# Altium integrated library National Semiconductor MiscPower.IntLib: 1552 symbols (part 17 of 43)
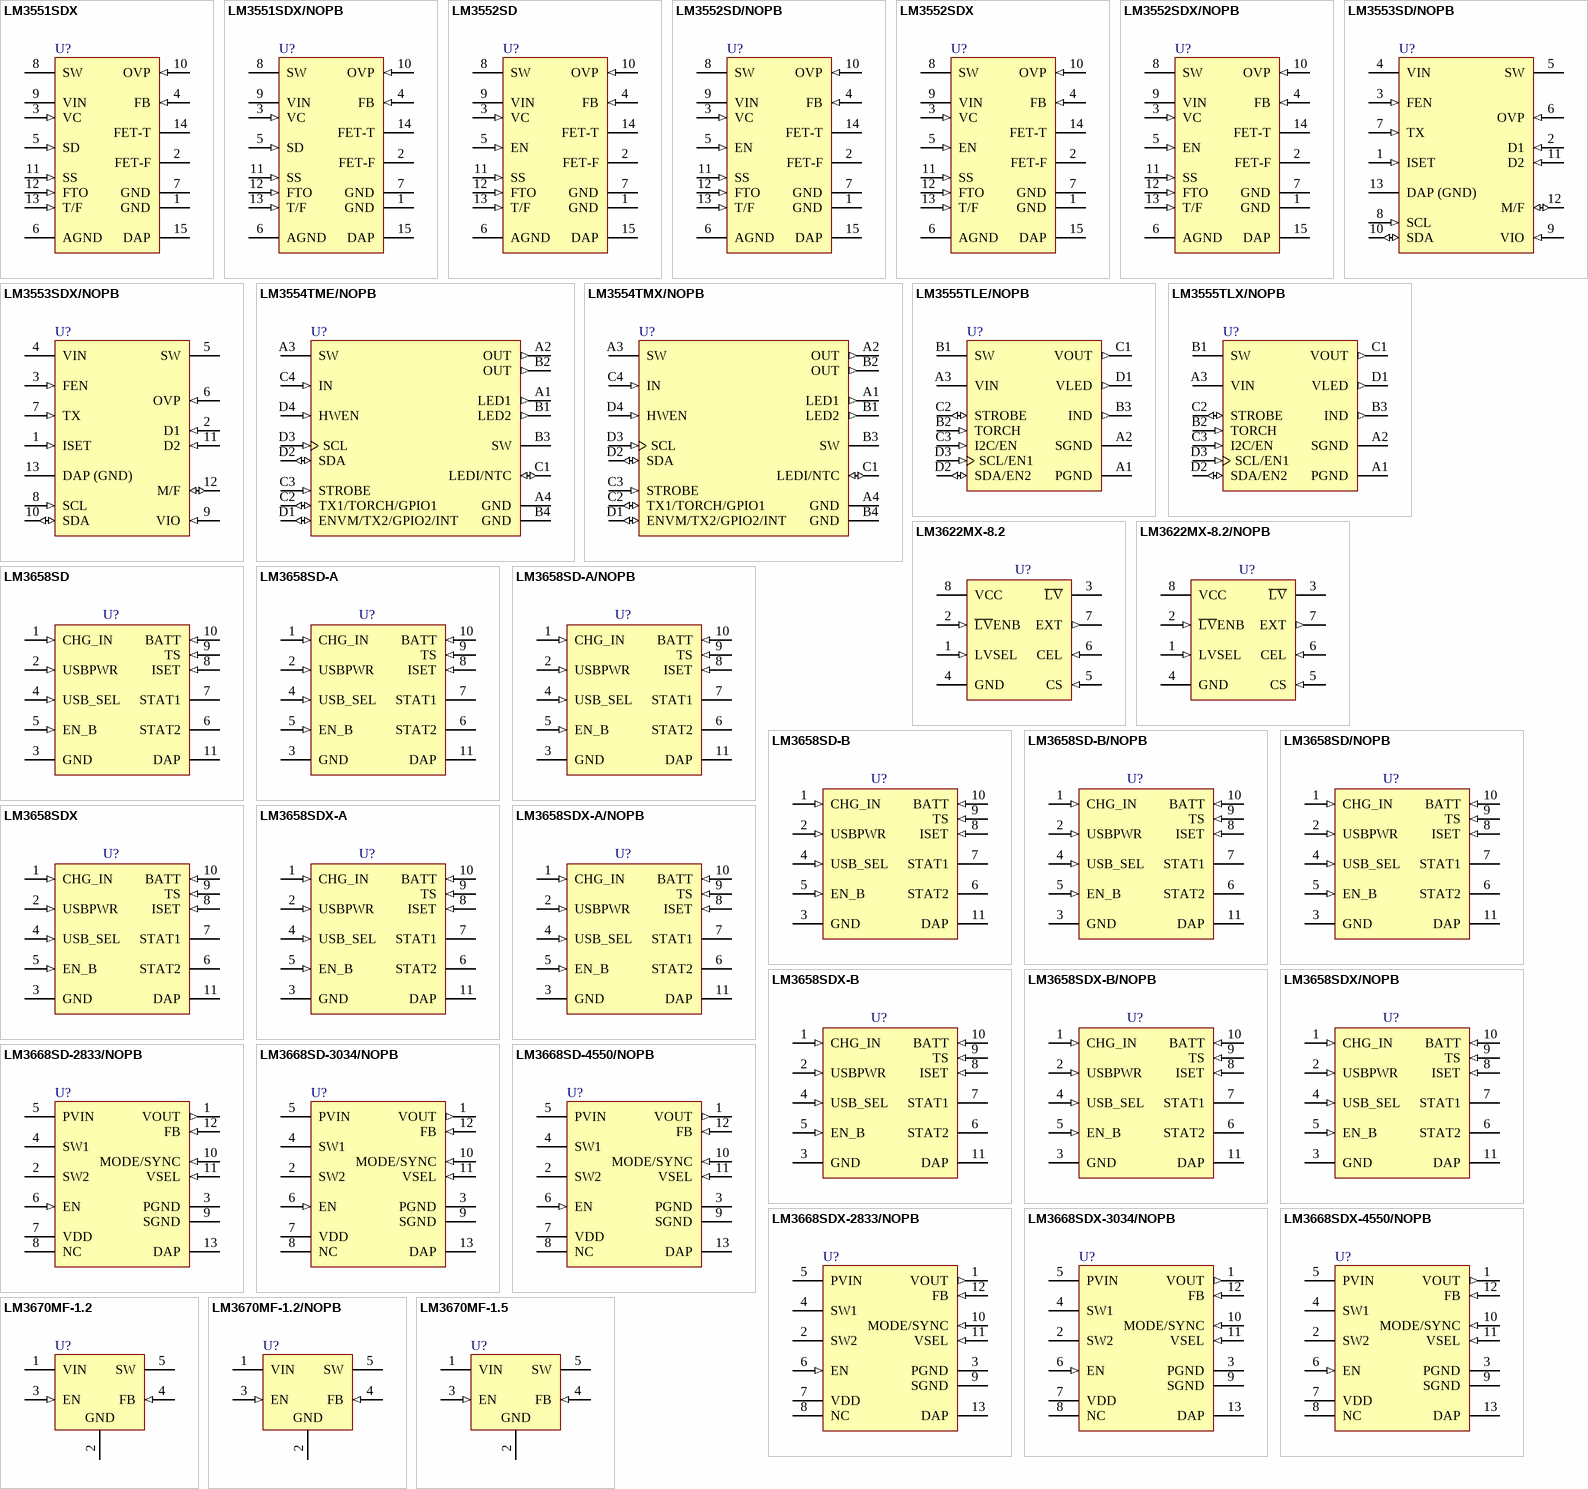
[diagram p73: symbols LM3551SDX to LM3670MF-1.5]

## LM3668SD-2833/NOPB
designator U?
1A, High Efficiency Dual Mode Single Inductor Buck-Boost DC/DC Converter, 12-pin LLP, Pb-Free; PartNumber: LM3668SD-2833/NOPB; Manufacturer: National Semiconductor; PackageTopMarking: ZXYTT*S017B; PowerWise: Y; CompType: MiscPower; DatasheetVersion: Sep-2008; PackageVersion: revB, Jul-2008; PackageReference: SDF12A; PackageDescription: LLP, Plastic, Dual, 3 x 3 x 0.8mm Body, 12 Lead, 0.4mm Pitch, No Pullback; RoHS: Y; PinCount: 12; High-Reliability: Y; ComponentLink1Description: Manufacturer URL; ComponentLink1URL: http://www.national.com/; ComponentLink2Description: LM3668 Datasheet; ComponentLink2URL: http://www.national.com/ds/LM/LM3668.pdf; ComponentLink3Description: LM3668 Web Page; ComponentLink3URL: http://www.national.com/pf/LM/LM3668.html; ComponentLink4Description: SDF12A Package Page; ComponentLink4URL: http://www.national.com/packaging/folders/sdf12a.html
footprint SDF12A (SON, 12-Leads, Body 3x3mm, Pitch 0.4mm, NSC Recommended)
pins: 1 VOUT (out), 2 SW2 (power), 3 PGND (power), 4 SW1 (power), 5 PVIN (power), 6 EN (in), 7 VDD (power), 8 NC, 9 SGND (power), 10 MODE/SYNC (in), 11 VSEL (in), 12 FB (in), 13 DAP (power)

## LM3668SD-3034/NOPB
designator U?
1A, High Efficiency Dual Mode Single Inductor Buck-Boost DC/DC Converter, 12-pin LLP, Pb-Free; PartNumber: LM3668SD-3034/NOPB; Manufacturer: National Semiconductor; PackageTopMarking: ZXYTT*S018B; PowerWise: Y; CompType: MiscPower; DatasheetVersion: Mar-2009; PackageVersion: revB, Jul-2008; PackageReference: SDF12A; PackageDescription: LLP, Plastic, Dual, 3 x 3 x 0.8mm Body, 12 Lead, 0.4mm Pitch, No Pullback; RoHS: Y; PinCount: 12; High-Reliability: Y; ComponentLink1Description: Manufacturer URL; ComponentLink1URL: http://www.national.com/; ComponentLink2Description: LM3668 Datasheet; ComponentLink2URL: http://www.national.com/ds/LM/LM3668.pdf; ComponentLink3Description: LM3668 Web Page; ComponentLink3URL: http://www.national.com/pf/LM/LM3668.html; ComponentLink4Description: SDF12A Package Page; ComponentLink4URL: http://www.national.com/packaging/folders/sdf12a.html
footprint SDF12A (SON, 12-Leads, Body 3x3mm, Pitch 0.4mm, NSC Recommended)
pins: 1 VOUT (out), 2 SW2 (power), 3 PGND (power), 4 SW1 (power), 5 PVIN (power), 6 EN (in), 7 VDD (power), 8 NC, 9 SGND (power), 10 MODE/SYNC (in), 11 VSEL (in), 12 FB (in), 13 DAP (power)

## LM3668SD-4550/NOPB
designator U?
1A, High Efficiency Dual Mode Single Inductor Buck-Boost DC/DC Converter, 12-pin LLP, Pb-Free; PartNumber: LM3668SD-4550/NOPB; Manufacturer: National Semiconductor; PackageTopMarking: ZXYTT*S019B; PowerWise: Y; CompType: MiscPower; DatasheetVersion: Mar-2009; PackageVersion: revB, Jul-2008; PackageReference: SDF12A; PackageDescription: LLP, Plastic, Dual, 3 x 3 x 0.8mm Body, 12 Lead, 0.4mm Pitch, No Pullback; RoHS: Y; PinCount: 12; High-Reliability: Y; ComponentLink1Description: Manufacturer URL; ComponentLink1URL: http://www.national.com/; ComponentLink2Description: LM3668 Datasheet; ComponentLink2URL: http://www.national.com/ds/LM/LM3668.pdf; ComponentLink3Description: LM3668 Web Page; ComponentLink3URL: http://www.national.com/pf/LM/LM3668.html; ComponentLink4Description: SDF12A Package Page; ComponentLink4URL: http://www.national.com/packaging/folders/sdf12a.html
footprint SDF12A (SON, 12-Leads, Body 3x3mm, Pitch 0.4mm, NSC Recommended)
pins: 1 VOUT (out), 2 SW2 (power), 3 PGND (power), 4 SW1 (power), 5 PVIN (power), 6 EN (in), 7 VDD (power), 8 NC, 9 SGND (power), 10 MODE/SYNC (in), 11 VSEL (in), 12 FB (in), 13 DAP (power)

## LM3668SDX-2833/NOPB
designator U?
1A, High Efficiency Dual Mode Single Inductor Buck-Boost DC/DC Converter, 12-pin LLP, Pb-Free; PartNumber: LM3668SDX-2833/NOPB; Manufacturer: National Semiconductor; PackageTopMarking: ZXYTT*S017B; PowerWise: Y; CompType: MiscPower; DatasheetVersion: Sep-2008; PackageVersion: revB, Jul-2008; PackageReference: SDF12A; PackageDescription: LLP, Plastic, Dual, 3 x 3 x 0.8mm Body, 12 Lead, 0.4mm Pitch, No Pullback; RoHS: Y; PinCount: 12; High-Reliability: Y; ComponentLink1Description: Manufacturer URL; ComponentLink1URL: http://www.national.com/; ComponentLink2Description: LM3668 Datasheet; ComponentLink2URL: http://www.national.com/ds/LM/LM3668.pdf; ComponentLink3Description: LM3668 Web Page; ComponentLink3URL: http://www.national.com/pf/LM/LM3668.html; ComponentLink4Description: SDF12A Package Page; ComponentLink4URL: http://www.national.com/packaging/folders/sdf12a.html
footprint SDF12A (SON, 12-Leads, Body 3x3mm, Pitch 0.4mm, NSC Recommended)
pins: 1 VOUT (out), 2 SW2 (power), 3 PGND (power), 4 SW1 (power), 5 PVIN (power), 6 EN (in), 7 VDD (power), 8 NC, 9 SGND (power), 10 MODE/SYNC (in), 11 VSEL (in), 12 FB (in), 13 DAP (power)

## LM3668SDX-3034/NOPB
designator U?
1A, High Efficiency Dual Mode Single Inductor Buck-Boost DC/DC Converter, 12-pin LLP, Pb-Free; PartNumber: LM3668SDX-3034/NOPB; Manufacturer: National Semiconductor; PackageTopMarking: ZXYTT*S018B; PowerWise: Y; CompType: MiscPower; DatasheetVersion: Sep-2008; PackageVersion: revB, Jul-2008; PackageReference: SDF12A; PackageDescription: LLP, Plastic, Dual, 3 x 3 x 0.8mm Body, 12 Lead, 0.4mm Pitch, No Pullback; RoHS: Y; PinCount: 12; High-Reliability: Y; ComponentLink1Description: Manufacturer URL; ComponentLink1URL: http://www.national.com/; ComponentLink2Description: LM3668 Datasheet; ComponentLink2URL: http://www.national.com/ds/LM/LM3668.pdf; ComponentLink3Description: LM3668 Web Page; ComponentLink3URL: http://www.national.com/pf/LM/LM3668.html; ComponentLink4Description: SDF12A Package Page; ComponentLink4URL: http://www.national.com/packaging/folders/sdf12a.html
footprint SDF12A (SON, 12-Leads, Body 3x3mm, Pitch 0.4mm, NSC Recommended)
pins: 1 VOUT (out), 2 SW2 (power), 3 PGND (power), 4 SW1 (power), 5 PVIN (power), 6 EN (in), 7 VDD (power), 8 NC, 9 SGND (power), 10 MODE/SYNC (in), 11 VSEL (in), 12 FB (in), 13 DAP (power)

## LM3668SDX-4550/NOPB
designator U?
1A, High Efficiency Dual Mode Single Inductor Buck-Boost DC/DC Converter, 12-pin LLP, Pb-Free; PartNumber: LM3668SDX-4550/NOPB; Manufacturer: National Semiconductor; PackageTopMarking: ZXYTT*S019B; PowerWise: Y; CompType: MiscPower; DatasheetVersion: Sep-2008; PackageVersion: revB, Jul-2008; PackageReference: SDF12A; PackageDescription: LLP, Plastic, Dual, 3 x 3 x 0.8mm Body, 12 Lead, 0.4mm Pitch, No Pullback; RoHS: Y; PinCount: 12; High-Reliability: Y; ComponentLink1Description: Manufacturer URL; ComponentLink1URL: http://www.national.com/; ComponentLink2Description: LM3668 Datasheet; ComponentLink2URL: http://www.national.com/ds/LM/LM3668.pdf; ComponentLink3Description: LM3668 Web Page; ComponentLink3URL: http://www.national.com/pf/LM/LM3668.html; ComponentLink4Description: SDF12A Package Page; ComponentLink4URL: http://www.national.com/packaging/folders/sdf12a.html
footprint SDF12A (SON, 12-Leads, Body 3x3mm, Pitch 0.4mm, NSC Recommended)
pins: 1 VOUT (out), 2 SW2 (power), 3 PGND (power), 4 SW1 (power), 5 PVIN (power), 6 EN (in), 7 VDD (power), 8 NC, 9 SGND (power), 10 MODE/SYNC (in), 11 VSEL (in), 12 FB (in), 13 DAP (power)

## LM3670MF-1.2
designator U?
Miniature Step-Down DC-DC Converter for Ultra Low Voltage Circuits, 5-pin SOT-23; PartNumber: LM3670MF-1.2; Manufacturer: National Semiconductor; PackageTopMarking: SCZB*XTT; PowerWise: Y; CompType: MiscPower; DatasheetVersion: Jan-2006; PackageVersion: revD, Aug-2008; PackageReference: MF05A; PackageDescription: Molded SOT-23, .115 x .063 x .040 in Body, 5 Lead, .0375 in Pitch; RoHS: N; PinCount: 5; High-Reliability: Y; ComponentLink1Description: Manufacturer URL; ComponentLink1URL: http://www.national.com/; ComponentLink2Description: LM3670 Datasheet; ComponentLink2URL: http://www.national.com/ds/LM/LM3670.pdf; ComponentLink3Description: LM3670 Web Page; ComponentLink3URL: http://www.national.com/pf/LM/LM3670.html; ComponentLink4Description: MF05A Package Page; ComponentLink4URL: http://www.national.com/packaging/folders/mf05a.html
footprint MF05A_N (SOT23, 5-Leads, Body 2.9x1.6mm, Pitch 0.95mm, Lead Span 2.8mm, IPC Medium Density)
footprint MF05A_L (SOT23, 5-Leads, Body 2.9x1.6mm, Pitch 0.95mm, Lead Span 2.8mm, IPC High Density)
footprint MF05A_M (SOT23, 5-Leads, Body 2.9x1.6mm, Pitch 0.95mm, Lead Span 2.8mm, IPC Low Density)
pins: 1 VIN (power), 2 GND (power), 3 EN (in), 4 FB (in), 5 SW (power)

## LM3670MF-1.2/NOPB
designator U?
Miniature Step-Down DC-DC Converter for Ultra Low Voltage Circuits, 5-pin SOT-23, Pb-Free; PartNumber: LM3670MF-1.2/NOPB; Manufacturer: National Semiconductor; PackageTopMarking: SCZB*XTT; PowerWise: Y; CompType: MiscPower; DatasheetVersion: Jan-2006; PackageVersion: revD, Aug-2008; PackageReference: MF05A; PackageDescription: Molded SOT-23, .115 x .063 x .040 in Body, 5 Lead, .0375 in Pitch; RoHS: Y; PinCount: 5; High-Reliability: Y; ComponentLink1Description: Manufacturer URL; ComponentLink1URL: http://www.national.com/; ComponentLink2Description: LM3670 Datasheet; ComponentLink2URL: http://www.national.com/ds/LM/LM3670.pdf; ComponentLink3Description: LM3670 Web Page; ComponentLink3URL: http://www.national.com/pf/LM/LM3670.html; ComponentLink4Description: MF05A Package Page; ComponentLink4URL: http://www.national.com/packaging/folders/mf05a.html
footprint MF05A_N (SOT23, 5-Leads, Body 2.9x1.6mm, Pitch 0.95mm, Lead Span 2.8mm, IPC Medium Density)
footprint MF05A_L (SOT23, 5-Leads, Body 2.9x1.6mm, Pitch 0.95mm, Lead Span 2.8mm, IPC High Density)
footprint MF05A_M (SOT23, 5-Leads, Body 2.9x1.6mm, Pitch 0.95mm, Lead Span 2.8mm, IPC Low Density)
pins: 1 VIN (power), 2 GND (power), 3 EN (in), 4 FB (in), 5 SW (power)

## LM3670MF-1.5
designator U?
Miniature Step-Down DC-DC Converter for Ultra Low Voltage Circuits, 5-pin SOT-23; PartNumber: LM3670MF-1.5; Manufacturer: National Semiconductor; PackageTopMarking: S82B*XTT; PowerWise: Y; CompType: MiscPower; DatasheetVersion: Jan-2006; PackageVersion: revD, Aug-2008; PackageReference: MF05A; PackageDescription: Molded SOT-23, .115 x .063 x .040 in Body, 5 Lead, .0375 in Pitch; RoHS: N; PinCount: 5; High-Reliability: Y; ComponentLink1Description: Manufacturer URL; ComponentLink1URL: http://www.national.com/; ComponentLink2Description: LM3670 Datasheet; ComponentLink2URL: http://www.national.com/ds/LM/LM3670.pdf; ComponentLink3Description: LM3670 Web Page; ComponentLink3URL: http://www.national.com/pf/LM/LM3670.html; ComponentLink4Description: MF05A Package Page; ComponentLink4URL: http://www.national.com/packaging/folders/mf05a.html
footprint MF05A_N (SOT23, 5-Leads, Body 2.9x1.6mm, Pitch 0.95mm, Lead Span 2.8mm, IPC Medium Density)
footprint MF05A_L (SOT23, 5-Leads, Body 2.9x1.6mm, Pitch 0.95mm, Lead Span 2.8mm, IPC High Density)
footprint MF05A_M (SOT23, 5-Leads, Body 2.9x1.6mm, Pitch 0.95mm, Lead Span 2.8mm, IPC Low Density)
pins: 1 VIN (power), 2 GND (power), 3 EN (in), 4 FB (in), 5 SW (power)

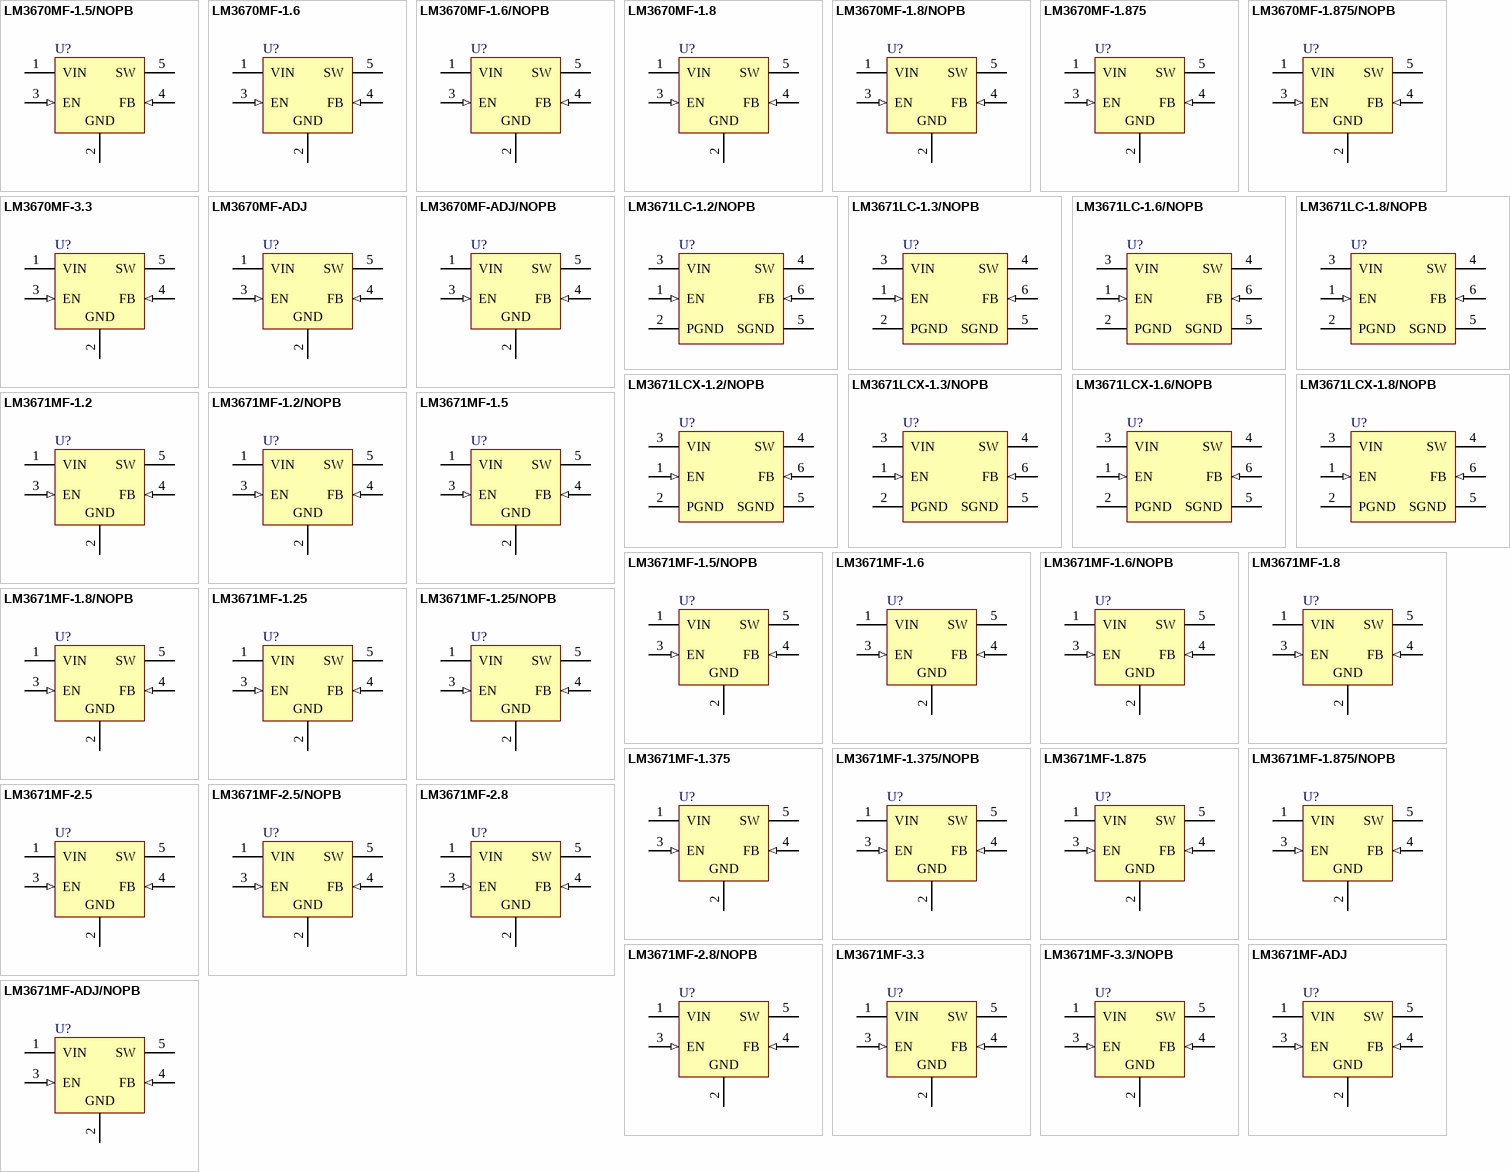
[diagram p19: symbols LM3670MF-1.5/NOPB to LM3671MF-ADJ/NOPB]

## LM3670MF-1.5/NOPB
designator U?
Miniature Step-Down DC-DC Converter for Ultra Low Voltage Circuits, 5-pin SOT-23, Pb-Free; PartNumber: LM3670MF-1.5/NOPB; Manufacturer: National Semiconductor; PackageTopMarking: S82B*XTT; PowerWise: Y; CompType: MiscPower; DatasheetVersion: Jan-2006; PackageVersion: revD, Aug-2008; PackageReference: MF05A; PackageDescription: Molded SOT-23, .115 x .063 x .040 in Body, 5 Lead, .0375 in Pitch; RoHS: Y; PinCount: 5; High-Reliability: Y; ComponentLink1Description: Manufacturer URL; ComponentLink1URL: http://www.national.com/; ComponentLink2Description: LM3670 Datasheet; ComponentLink2URL: http://www.national.com/ds/LM/LM3670.pdf; ComponentLink3Description: LM3670 Web Page; ComponentLink3URL: http://www.national.com/pf/LM/LM3670.html; ComponentLink4Description: MF05A Package Page; ComponentLink4URL: http://www.national.com/packaging/folders/mf05a.html
footprint MF05A_N (SOT23, 5-Leads, Body 2.9x1.6mm, Pitch 0.95mm, Lead Span 2.8mm, IPC Medium Density)
footprint MF05A_L (SOT23, 5-Leads, Body 2.9x1.6mm, Pitch 0.95mm, Lead Span 2.8mm, IPC High Density)
footprint MF05A_M (SOT23, 5-Leads, Body 2.9x1.6mm, Pitch 0.95mm, Lead Span 2.8mm, IPC Low Density)
pins: 1 VIN (power), 2 GND (power), 3 EN (in), 4 FB (in), 5 SW (power)

## LM3670MF-1.6
designator U?
Miniature Step-Down DC-DC Converter for Ultra Low Voltage Circuits, 5-pin SOT-23; PartNumber: LM3670MF-1.6; Manufacturer: National Semiconductor; PackageTopMarking: SDBB*XTT; PowerWise: Y; CompType: MiscPower; DatasheetVersion: Jan-2006; PackageVersion: revD, Aug-2008; PackageReference: MF05A; PackageDescription: Molded SOT-23, .115 x .063 x .040 in Body, 5 Lead, .0375 in Pitch; RoHS: N; PinCount: 5; High-Reliability: Y; ComponentLink1Description: Manufacturer URL; ComponentLink1URL: http://www.national.com/; ComponentLink2Description: LM3670 Datasheet; ComponentLink2URL: http://www.national.com/ds/LM/LM3670.pdf; ComponentLink3Description: LM3670 Web Page; ComponentLink3URL: http://www.national.com/pf/LM/LM3670.html; ComponentLink4Description: MF05A Package Page; ComponentLink4URL: http://www.national.com/packaging/folders/mf05a.html
footprint MF05A_N (SOT23, 5-Leads, Body 2.9x1.6mm, Pitch 0.95mm, Lead Span 2.8mm, IPC Medium Density)
footprint MF05A_L (SOT23, 5-Leads, Body 2.9x1.6mm, Pitch 0.95mm, Lead Span 2.8mm, IPC High Density)
footprint MF05A_M (SOT23, 5-Leads, Body 2.9x1.6mm, Pitch 0.95mm, Lead Span 2.8mm, IPC Low Density)
pins: 1 VIN (power), 2 GND (power), 3 EN (in), 4 FB (in), 5 SW (power)

## LM3670MF-1.6/NOPB
designator U?
Miniature Step-Down DC-DC Converter for Ultra Low Voltage Circuits, 5-pin SOT-23, Pb-Free; PartNumber: LM3670MF-1.6/NOPB; Manufacturer: National Semiconductor; PackageTopMarking: SDBB*XTT; PowerWise: Y; CompType: MiscPower; DatasheetVersion: Jan-2006; PackageVersion: revD, Aug-2008; PackageReference: MF05A; PackageDescription: Molded SOT-23, .115 x .063 x .040 in Body, 5 Lead, .0375 in Pitch; RoHS: Y; PinCount: 5; High-Reliability: Y; ComponentLink1Description: Manufacturer URL; ComponentLink1URL: http://www.national.com/; ComponentLink2Description: LM3670 Datasheet; ComponentLink2URL: http://www.national.com/ds/LM/LM3670.pdf; ComponentLink3Description: LM3670 Web Page; ComponentLink3URL: http://www.national.com/pf/LM/LM3670.html; ComponentLink4Description: MF05A Package Page; ComponentLink4URL: http://www.national.com/packaging/folders/mf05a.html
footprint MF05A_N (SOT23, 5-Leads, Body 2.9x1.6mm, Pitch 0.95mm, Lead Span 2.8mm, IPC Medium Density)
footprint MF05A_L (SOT23, 5-Leads, Body 2.9x1.6mm, Pitch 0.95mm, Lead Span 2.8mm, IPC High Density)
footprint MF05A_M (SOT23, 5-Leads, Body 2.9x1.6mm, Pitch 0.95mm, Lead Span 2.8mm, IPC Low Density)
pins: 1 VIN (power), 2 GND (power), 3 EN (in), 4 FB (in), 5 SW (power)

## LM3670MF-1.8
designator U?
Miniature Step-Down DC-DC Converter for Ultra Low Voltage Circuits, 5-pin SOT-23; PartNumber: LM3670MF-1.8; Manufacturer: National Semiconductor; PackageTopMarking: SDCB*XTT; PowerWise: Y; CompType: MiscPower; DatasheetVersion: Jan-2006; PackageVersion: revD, Aug-2008; PackageReference: MF05A; PackageDescription: Molded SOT-23, .115 x .063 x .040 in Body, 5 Lead, .0375 in Pitch; RoHS: N; PinCount: 5; High-Reliability: Y; ComponentLink1Description: Manufacturer URL; ComponentLink1URL: http://www.national.com/; ComponentLink2Description: LM3670 Datasheet; ComponentLink2URL: http://www.national.com/ds/LM/LM3670.pdf; ComponentLink3Description: LM3670 Web Page; ComponentLink3URL: http://www.national.com/pf/LM/LM3670.html; ComponentLink4Description: MF05A Package Page; ComponentLink4URL: http://www.national.com/packaging/folders/mf05a.html
footprint MF05A_N (SOT23, 5-Leads, Body 2.9x1.6mm, Pitch 0.95mm, Lead Span 2.8mm, IPC Medium Density)
footprint MF05A_L (SOT23, 5-Leads, Body 2.9x1.6mm, Pitch 0.95mm, Lead Span 2.8mm, IPC High Density)
footprint MF05A_M (SOT23, 5-Leads, Body 2.9x1.6mm, Pitch 0.95mm, Lead Span 2.8mm, IPC Low Density)
pins: 1 VIN (power), 2 GND (power), 3 EN (in), 4 FB (in), 5 SW (power)

## LM3670MF-1.8/NOPB
designator U?
Miniature Step-Down DC-DC Converter for Ultra Low Voltage Circuits, 5-pin SOT-23, Pb-Free; PartNumber: LM3670MF-1.8/NOPB; Manufacturer: National Semiconductor; PackageTopMarking: SDCB*XTT; PowerWise: Y; CompType: MiscPower; DatasheetVersion: Jan-2006; PackageVersion: revD, Aug-2008; PackageReference: MF05A; PackageDescription: Molded SOT-23, .115 x .063 x .040 in Body, 5 Lead, .0375 in Pitch; RoHS: Y; PinCount: 5; High-Reliability: Y; ComponentLink1Description: Manufacturer URL; ComponentLink1URL: http://www.national.com/; ComponentLink2Description: LM3670 Datasheet; ComponentLink2URL: http://www.national.com/ds/LM/LM3670.pdf; ComponentLink3Description: LM3670 Web Page; ComponentLink3URL: http://www.national.com/pf/LM/LM3670.html; ComponentLink4Description: MF05A Package Page; ComponentLink4URL: http://www.national.com/packaging/folders/mf05a.html
footprint MF05A_N (SOT23, 5-Leads, Body 2.9x1.6mm, Pitch 0.95mm, Lead Span 2.8mm, IPC Medium Density)
footprint MF05A_L (SOT23, 5-Leads, Body 2.9x1.6mm, Pitch 0.95mm, Lead Span 2.8mm, IPC High Density)
footprint MF05A_M (SOT23, 5-Leads, Body 2.9x1.6mm, Pitch 0.95mm, Lead Span 2.8mm, IPC Low Density)
pins: 1 VIN (power), 2 GND (power), 3 EN (in), 4 FB (in), 5 SW (power)

## LM3670MF-1.875
designator U?
Miniature Step-Down DC-DC Converter for Ultra Low Voltage Circuits, 5-pin SOT-23; PartNumber: LM3670MF-1.875; Manufacturer: National Semiconductor; PackageTopMarking: SEFB*XTT; PowerWise: Y; CompType: MiscPower; DatasheetVersion: Jan-2006; PackageVersion: revD, Aug-2008; PackageReference: MF05A; PackageDescription: Molded SOT-23, .115 x .063 x .040 in Body, 5 Lead, .0375 in Pitch; RoHS: N; PinCount: 5; High-Reliability: Y; ComponentLink1Description: Manufacturer URL; ComponentLink1URL: http://www.national.com/; ComponentLink2Description: LM3670 Datasheet; ComponentLink2URL: http://www.national.com/ds/LM/LM3670.pdf; ComponentLink3Description: LM3670 Web Page; ComponentLink3URL: http://www.national.com/pf/LM/LM3670.html; ComponentLink4Description: MF05A Package Page; ComponentLink4URL: http://www.national.com/packaging/folders/mf05a.html
footprint MF05A_N (SOT23, 5-Leads, Body 2.9x1.6mm, Pitch 0.95mm, Lead Span 2.8mm, IPC Medium Density)
footprint MF05A_L (SOT23, 5-Leads, Body 2.9x1.6mm, Pitch 0.95mm, Lead Span 2.8mm, IPC High Density)
footprint MF05A_M (SOT23, 5-Leads, Body 2.9x1.6mm, Pitch 0.95mm, Lead Span 2.8mm, IPC Low Density)
pins: 1 VIN (power), 2 GND (power), 3 EN (in), 4 FB (in), 5 SW (power)

## LM3670MF-1.875/NOPB
designator U?
Miniature Step-Down DC-DC Converter for Ultra Low Voltage Circuits, 5-pin SOT-23, Pb-Free; PartNumber: LM3670MF-1.875/NOPB; Manufacturer: National Semiconductor; PackageTopMarking: SEFB*XTT; PowerWise: Y; CompType: MiscPower; DatasheetVersion: Jan-2006; PackageVersion: revD, Aug-2008; PackageReference: MF05A; PackageDescription: Molded SOT-23, .115 x .063 x .040 in Body, 5 Lead, .0375 in Pitch; RoHS: Y; PinCount: 5; High-Reliability: Y; ComponentLink1Description: Manufacturer URL; ComponentLink1URL: http://www.national.com/; ComponentLink2Description: LM3670 Datasheet; ComponentLink2URL: http://www.national.com/ds/LM/LM3670.pdf; ComponentLink3Description: LM3670 Web Page; ComponentLink3URL: http://www.national.com/pf/LM/LM3670.html; ComponentLink4Description: MF05A Package Page; ComponentLink4URL: http://www.national.com/packaging/folders/mf05a.html
footprint MF05A_N (SOT23, 5-Leads, Body 2.9x1.6mm, Pitch 0.95mm, Lead Span 2.8mm, IPC Medium Density)
footprint MF05A_L (SOT23, 5-Leads, Body 2.9x1.6mm, Pitch 0.95mm, Lead Span 2.8mm, IPC High Density)
footprint MF05A_M (SOT23, 5-Leads, Body 2.9x1.6mm, Pitch 0.95mm, Lead Span 2.8mm, IPC Low Density)
pins: 1 VIN (power), 2 GND (power), 3 EN (in), 4 FB (in), 5 SW (power)

## LM3670MF-3.3
designator U?
Miniature Step-Down DC-DC Converter for Ultra Low Voltage Circuits, 5-pin SOT-23; PartNumber: LM3670MF-3.3; Manufacturer: National Semiconductor; PackageTopMarking: SDEB*XTT; PowerWise: Y; CompType: MiscPower; DatasheetVersion: Jan-2006; PackageVersion: revD, Aug-2008; PackageReference: MF05A; PackageDescription: Molded SOT-23, .115 x .063 x .040 in Body, 5 Lead, .0375 in Pitch; RoHS: N; PinCount: 5; High-Reliability: Y; ComponentLink1Description: Manufacturer URL; ComponentLink1URL: http://www.national.com/; ComponentLink2Description: LM3670 Datasheet; ComponentLink2URL: http://www.national.com/ds/LM/LM3670.pdf; ComponentLink3Description: LM3670 Web Page; ComponentLink3URL: http://www.national.com/pf/LM/LM3670.html; ComponentLink4Description: MF05A Package Page; ComponentLink4URL: http://www.national.com/packaging/folders/mf05a.html
footprint MF05A_N (SOT23, 5-Leads, Body 2.9x1.6mm, Pitch 0.95mm, Lead Span 2.8mm, IPC Medium Density)
footprint MF05A_L (SOT23, 5-Leads, Body 2.9x1.6mm, Pitch 0.95mm, Lead Span 2.8mm, IPC High Density)
footprint MF05A_M (SOT23, 5-Leads, Body 2.9x1.6mm, Pitch 0.95mm, Lead Span 2.8mm, IPC Low Density)
pins: 1 VIN (power), 2 GND (power), 3 EN (in), 4 FB (in), 5 SW (power)

## LM3670MF-ADJ
designator U?
Miniature Step-Down DC-DC Converter for Ultra Low Voltage Circuits, 5-pin SOT-23; PartNumber: LM3670MF-ADJ; Manufacturer: National Semiconductor; PackageTopMarking: SDFB*XTT; PowerWise: Y; CompType: MiscPower; DatasheetVersion: Jan-2006; PackageVersion: revD, Aug-2008; PackageReference: MF05A; PackageDescription: Molded SOT-23, .115 x .063 x .040 in Body, 5 Lead, .0375 in Pitch; RoHS: N; PinCount: 5; High-Reliability: Y; ComponentLink1Description: Manufacturer URL; ComponentLink1URL: http://www.national.com/; ComponentLink2Description: LM3670 Datasheet; ComponentLink2URL: http://www.national.com/ds/LM/LM3670.pdf; ComponentLink3Description: LM3670 Web Page; ComponentLink3URL: http://www.national.com/pf/LM/LM3670.html; ComponentLink4Description: MF05A Package Page; ComponentLink4URL: http://www.national.com/packaging/folders/mf05a.html
footprint MF05A_N (SOT23, 5-Leads, Body 2.9x1.6mm, Pitch 0.95mm, Lead Span 2.8mm, IPC Medium Density)
footprint MF05A_L (SOT23, 5-Leads, Body 2.9x1.6mm, Pitch 0.95mm, Lead Span 2.8mm, IPC High Density)
footprint MF05A_M (SOT23, 5-Leads, Body 2.9x1.6mm, Pitch 0.95mm, Lead Span 2.8mm, IPC Low Density)
pins: 1 VIN (power), 2 GND (power), 3 EN (in), 4 FB (in), 5 SW (power)

## LM3670MF-ADJ/NOPB
designator U?
Miniature Step-Down DC-DC Converter for Ultra Low Voltage Circuits, 5-pin SOT-23, Pb-Free; PartNumber: LM3670MF-ADJ/NOPB; Manufacturer: National Semiconductor; PackageTopMarking: SDFB*XTT; PowerWise: Y; CompType: MiscPower; DatasheetVersion: Jan-2006; PackageVersion: revD, Aug-2008; PackageReference: MF05A; PackageDescription: Molded SOT-23, .115 x .063 x .040 in Body, 5 Lead, .0375 in Pitch; RoHS: Y; PinCount: 5; High-Reliability: Y; ComponentLink1Description: Manufacturer URL; ComponentLink1URL: http://www.national.com/; ComponentLink2Description: LM3670 Datasheet; ComponentLink2URL: http://www.national.com/ds/LM/LM3670.pdf; ComponentLink3Description: LM3670 Web Page; ComponentLink3URL: http://www.national.com/pf/LM/LM3670.html; ComponentLink4Description: MF05A Package Page; ComponentLink4URL: http://www.national.com/packaging/folders/mf05a.html
footprint MF05A_N (SOT23, 5-Leads, Body 2.9x1.6mm, Pitch 0.95mm, Lead Span 2.8mm, IPC Medium Density)
footprint MF05A_L (SOT23, 5-Leads, Body 2.9x1.6mm, Pitch 0.95mm, Lead Span 2.8mm, IPC High Density)
footprint MF05A_M (SOT23, 5-Leads, Body 2.9x1.6mm, Pitch 0.95mm, Lead Span 2.8mm, IPC Low Density)
pins: 1 VIN (power), 2 GND (power), 3 EN (in), 4 FB (in), 5 SW (power)

## LM3671LC-1.2/NOPB
designator U?
2MHz, 600mA Step-Down DC-DC Converter, 6-pin LLP COL, Pb-Free; PartNumber: LM3671LC-1.2/NOPB; Manufacturer: National Semiconductor; PackageTopMarking: XTT*S39; PowerWise: N; CompType: MiscPower; High-Reliability: Y; DatasheetVersion: Nov-2007; PackageVersion: revA, Oct-2006; PackageReference: LCA06B; PackageDescription: LLP, 2 x 2 x 0.6mm, 6 Lead, 0.5mm Pitch, No Pullback; RoHS: Y; PinCount: 6; ComponentLink1Description: Manufacturer URL; ComponentLink1URL: http://www.national.com/; ComponentLink2Description: LM3671 Datasheet; ComponentLink2URL: http://www.national.com/ds/LM/LM3671.pdf; ComponentLink3Description: LM3671 Web Page; ComponentLink3URL: http://www.national.com/pf/LM/LM3671.html; ComponentLink4Description: LCA06B Package Page; ComponentLink4URL: http://www.national.com/packaging/folders/lca06b.html
footprint LCA06B (SON, 6-Leads, Body 2x2mm, Pitch 0.5mm, NSC Recommended)
pins: 1 EN (in), 2 PGND (power), 3 VIN (power), 4 SW (power), 5 SGND (power), 6 FB (in)

## LM3671LC-1.3/NOPB
designator U?
2MHz, 600mA Step-Down DC-DC Converter, 6-pin LLP COL, Pb-Free; PartNumber: LM3671LC-1.3/NOPB; Manufacturer: National Semiconductor; PackageTopMarking: XTT*S40; PowerWise: N; CompType: MiscPower; High-Reliability: Y; DatasheetVersion: Oct-2008; PackageVersion: revA, Oct-2006; PackageReference: LCA06B; PackageDescription: LLP, 2 x 2 x 0.6mm, 6 Lead, 0.5mm Pitch, No Pullback; RoHS: Y; PinCount: 6; ComponentLink1Description: Manufacturer URL; ComponentLink1URL: http://www.national.com/; ComponentLink2Description: LM3671 Datasheet; ComponentLink2URL: http://www.national.com/ds/LM/LM3671.pdf; ComponentLink3Description: LM3671 Web Page; ComponentLink3URL: http://www.national.com/pf/LM/LM3671.html; ComponentLink4Description: LCA06B Package Page; ComponentLink4URL: http://www.national.com/packaging/folders/lca06b.html
footprint LCA06B (SON, 6-Leads, Body 2x2mm, Pitch 0.5mm, NSC Recommended)
pins: 1 EN (in), 2 PGND (power), 3 VIN (power), 4 SW (power), 5 SGND (power), 6 FB (in)

## LM3671LC-1.6/NOPB
designator U?
2MHz, 600mA Step-Down DC-DC Converter, 6-pin LLP COL, Pb-Free; PartNumber: LM3671LC-1.6/NOPB; Manufacturer: National Semiconductor; PackageTopMarking: XTT*S41; PowerWise: N; CompType: MiscPower; High-Reliability: Y; DatasheetVersion: Oct-2008; PackageVersion: revA, Oct-2006; PackageReference: LCA06B; PackageDescription: LLP, 2 x 2 x 0.6mm, 6 Lead, 0.5mm Pitch, No Pullback; RoHS: Y; PinCount: 6; ComponentLink1Description: Manufacturer URL; ComponentLink1URL: http://www.national.com/; ComponentLink2Description: LM3671 Datasheet; ComponentLink2URL: http://www.national.com/ds/LM/LM3671.pdf; ComponentLink3Description: LM3671 Web Page; ComponentLink3URL: http://www.national.com/pf/LM/LM3671.html; ComponentLink4Description: LCA06B Package Page; ComponentLink4URL: http://www.national.com/packaging/folders/lca06b.html
footprint LCA06B (SON, 6-Leads, Body 2x2mm, Pitch 0.5mm, NSC Recommended)
pins: 1 EN (in), 2 PGND (power), 3 VIN (power), 4 SW (power), 5 SGND (power), 6 FB (in)

## LM3671LC-1.8/NOPB
designator U?
2MHz, 600mA Step-Down DC-DC Converter, 6-pin LLP COL, Pb-Free; PartNumber: LM3671LC-1.8/NOPB; Manufacturer: National Semiconductor; PackageTopMarking: XTT*S42; PowerWise: N; CompType: MiscPower; High-Reliability: Y; DatasheetVersion: Oct-2008; PackageVersion: revA, Oct-2006; PackageReference: LCA06B; PackageDescription: LLP, 2 x 2 x 0.6mm, 6 Lead, 0.5mm Pitch, No Pullback; RoHS: Y; PinCount: 6; ComponentLink1Description: Manufacturer URL; ComponentLink1URL: http://www.national.com/; ComponentLink2Description: LM3671 Datasheet; ComponentLink2URL: http://www.national.com/ds/LM/LM3671.pdf; ComponentLink3Description: LM3671 Web Page; ComponentLink3URL: http://www.national.com/pf/LM/LM3671.html; ComponentLink4Description: LCA06B Package Page; ComponentLink4URL: http://www.national.com/packaging/folders/lca06b.html
footprint LCA06B (SON, 6-Leads, Body 2x2mm, Pitch 0.5mm, NSC Recommended)
pins: 1 EN (in), 2 PGND (power), 3 VIN (power), 4 SW (power), 5 SGND (power), 6 FB (in)

## LM3671LCX-1.2/NOPB
designator U?
2MHz, 600mA Step-Down DC-DC Converter, 6-pin LLP COL, Pb-Free; PartNumber: LM3671LCX-1.2/NOPB; Manufacturer: National Semiconductor; PackageTopMarking: XTT*S39; PowerWise: N; CompType: MiscPower; High-Reliability: Y; DatasheetVersion: Nov-2007; PackageVersion: revA, Oct-2006; PackageReference: LCA06B; PackageDescription: LLP, 2 x 2 x 0.6mm, 6 Lead, 0.5mm Pitch, No Pullback; RoHS: Y; PinCount: 6; ComponentLink1Description: Manufacturer URL; ComponentLink1URL: http://www.national.com/; ComponentLink2Description: LM3671 Datasheet; ComponentLink2URL: http://www.national.com/ds/LM/LM3671.pdf; ComponentLink3Description: LM3671 Web Page; ComponentLink3URL: http://www.national.com/pf/LM/LM3671.html; ComponentLink4Description: LCA06B Package Page; ComponentLink4URL: http://www.national.com/packaging/folders/lca06b.html
footprint LCA06B (SON, 6-Leads, Body 2x2mm, Pitch 0.5mm, NSC Recommended)
pins: 1 EN (in), 2 PGND (power), 3 VIN (power), 4 SW (power), 5 SGND (power), 6 FB (in)

## LM3671LCX-1.3/NOPB
designator U?
2MHz, 600mA Step-Down DC-DC Converter, 6-pin LLP COL, Pb-Free; PartNumber: LM3671LCX-1.3/NOPB; Manufacturer: National Semiconductor; PackageTopMarking: XTT*S40; PowerWise: N; CompType: MiscPower; High-Reliability: Y; DatasheetVersion: Nov-2007; PackageVersion: revA, Oct-2006; PackageReference: LCA06B; PackageDescription: LLP, 2 x 2 x 0.6mm, 6 Lead, 0.5mm Pitch, No Pullback; RoHS: Y; PinCount: 6; ComponentLink1Description: Manufacturer URL; ComponentLink1URL: http://www.national.com/; ComponentLink2Description: LM3671 Datasheet; ComponentLink2URL: http://www.national.com/ds/LM/LM3671.pdf; ComponentLink3Description: LM3671 Web Page; ComponentLink3URL: http://www.national.com/pf/LM/LM3671.html; ComponentLink4Description: LCA06B Package Page; ComponentLink4URL: http://www.national.com/packaging/folders/lca06b.html
footprint LCA06B (SON, 6-Leads, Body 2x2mm, Pitch 0.5mm, NSC Recommended)
pins: 1 EN (in), 2 PGND (power), 3 VIN (power), 4 SW (power), 5 SGND (power), 6 FB (in)

## LM3671LCX-1.6/NOPB
designator U?
2MHz, 600mA Step-Down DC-DC Converter, 6-pin LLP COL, Pb-Free; PartNumber: LM3671LCX-1.6/NOPB; Manufacturer: National Semiconductor; PackageTopMarking: XTT*S41; PowerWise: N; CompType: MiscPower; High-Reliability: Y; DatasheetVersion: Nov-2007; PackageVersion: revA, Oct-2006; PackageReference: LCA06B; PackageDescription: LLP, 2 x 2 x 0.6mm, 6 Lead, 0.5mm Pitch, No Pullback; RoHS: Y; PinCount: 6; ComponentLink1Description: Manufacturer URL; ComponentLink1URL: http://www.national.com/; ComponentLink2Description: LM3671 Datasheet; ComponentLink2URL: http://www.national.com/ds/LM/LM3671.pdf; ComponentLink3Description: LM3671 Web Page; ComponentLink3URL: http://www.national.com/pf/LM/LM3671.html; ComponentLink4Description: LCA06B Package Page; ComponentLink4URL: http://www.national.com/packaging/folders/lca06b.html
footprint LCA06B (SON, 6-Leads, Body 2x2mm, Pitch 0.5mm, NSC Recommended)
pins: 1 EN (in), 2 PGND (power), 3 VIN (power), 4 SW (power), 5 SGND (power), 6 FB (in)

## LM3671LCX-1.8/NOPB
designator U?
2MHz, 600mA Step-Down DC-DC Converter, 6-pin LLP COL, Pb-Free; PartNumber: LM3671LCX-1.8/NOPB; Manufacturer: National Semiconductor; PackageTopMarking: XTT*S42; PowerWise: N; CompType: MiscPower; High-Reliability: Y; DatasheetVersion: Nov-2007; PackageVersion: revA, Oct-2006; PackageReference: LCA06B; PackageDescription: LLP, 2 x 2 x 0.6mm, 6 Lead, 0.5mm Pitch, No Pullback; RoHS: Y; PinCount: 6; ComponentLink1Description: Manufacturer URL; ComponentLink1URL: http://www.national.com/; ComponentLink2Description: LM3671 Datasheet; ComponentLink2URL: http://www.national.com/ds/LM/LM3671.pdf; ComponentLink3Description: LM3671 Web Page; ComponentLink3URL: http://www.national.com/pf/LM/LM3671.html; ComponentLink4Description: LCA06B Package Page; ComponentLink4URL: http://www.national.com/packaging/folders/lca06b.html
footprint LCA06B (SON, 6-Leads, Body 2x2mm, Pitch 0.5mm, NSC Recommended)
pins: 1 EN (in), 2 PGND (power), 3 VIN (power), 4 SW (power), 5 SGND (power), 6 FB (in)

## LM3671MF-1.2
designator U?
2MHz, 600mA Step-Down DC-DC Converter, 5-pin SOT-23; PartNumber: LM3671MF-1.2; Manufacturer: National Semiconductor; PackageTopMarking: SBPB*XTT; PowerWise: Y; CompType: MiscPower; DatasheetVersion: Oct-2008; PackageVersion: revD, Aug-2008; PackageReference: MF05A; PackageDescription: Molded SOT-23, .115 x .063 x .040 in Body, 5 Lead, .0375 in Pitch; RoHS: N; PinCount: 5; High-Reliability: Y; ComponentLink1Description: Manufacturer URL; ComponentLink1URL: http://www.national.com/; ComponentLink2Description: LM3671 Datasheet; ComponentLink2URL: http://www.national.com/ds/LM/LM3671.pdf; ComponentLink3Description: LM3671 Web Page; ComponentLink3URL: http://www.national.com/pf/LM/LM3671.html; ComponentLink4Description: MF05A Package Page; ComponentLink4URL: http://www.national.com/packaging/folders/mf05a.html
footprint MF05A_N (SOT23, 5-Leads, Body 2.9x1.6mm, Pitch 0.95mm, Lead Span 2.8mm, IPC Medium Density)
footprint MF05A_L (SOT23, 5-Leads, Body 2.9x1.6mm, Pitch 0.95mm, Lead Span 2.8mm, IPC High Density)
footprint MF05A_M (SOT23, 5-Leads, Body 2.9x1.6mm, Pitch 0.95mm, Lead Span 2.8mm, IPC Low Density)
pins: 1 VIN (power), 2 GND (power), 3 EN (in), 4 FB (in), 5 SW (power)

## LM3671MF-1.2/NOPB
designator U?
2MHz, 600mA Step-Down DC-DC Converter, 5-pin SOT-23, Pb-Free; PartNumber: LM3671MF-1.2/NOPB; Manufacturer: National Semiconductor; PackageTopMarking: SBPB*XTT; PowerWise: Y; CompType: MiscPower; DatasheetVersion: Oct-2008; PackageVersion: revD, Aug-2008; PackageReference: MF05A; PackageDescription: Molded SOT-23, .115 x .063 x .040 in Body, 5 Lead, .0375 in Pitch; RoHS: Y; PinCount: 5; High-Reliability: Y; ComponentLink1Description: Manufacturer URL; ComponentLink1URL: http://www.national.com/; ComponentLink2Description: LM3671 Datasheet; ComponentLink2URL: http://www.national.com/ds/LM/LM3671.pdf; ComponentLink3Description: LM3671 Web Page; ComponentLink3URL: http://www.national.com/pf/LM/LM3671.html; ComponentLink4Description: MF05A Package Page; ComponentLink4URL: http://www.national.com/packaging/folders/mf05a.html
footprint MF05A_N (SOT23, 5-Leads, Body 2.9x1.6mm, Pitch 0.95mm, Lead Span 2.8mm, IPC Medium Density)
footprint MF05A_L (SOT23, 5-Leads, Body 2.9x1.6mm, Pitch 0.95mm, Lead Span 2.8mm, IPC High Density)
footprint MF05A_M (SOT23, 5-Leads, Body 2.9x1.6mm, Pitch 0.95mm, Lead Span 2.8mm, IPC Low Density)
pins: 1 VIN (power), 2 GND (power), 3 EN (in), 4 FB (in), 5 SW (power)

## LM3671MF-1.5
designator U?
2MHz, 600mA Step-Down DC-DC Converter, 5-pin SOT-23; PartNumber: LM3671MF-1.5; Manufacturer: National Semiconductor; PackageTopMarking: SBRB*XTT; PowerWise: Y; CompType: MiscPower; DatasheetVersion: Oct-2008; PackageVersion: revD, Aug-2008; PackageReference: MF05A; PackageDescription: Molded SOT-23, .115 x .063 x .040 in Body, 5 Lead, .0375 in Pitch; RoHS: N; PinCount: 5; High-Reliability: Y; ComponentLink1Description: Manufacturer URL; ComponentLink1URL: http://www.national.com/; ComponentLink2Description: LM3671 Datasheet; ComponentLink2URL: http://www.national.com/ds/LM/LM3671.pdf; ComponentLink3Description: LM3671 Web Page; ComponentLink3URL: http://www.national.com/pf/LM/LM3671.html; ComponentLink4Description: MF05A Package Page; ComponentLink4URL: http://www.national.com/packaging/folders/mf05a.html
footprint MF05A_N (SOT23, 5-Leads, Body 2.9x1.6mm, Pitch 0.95mm, Lead Span 2.8mm, IPC Medium Density)
footprint MF05A_L (SOT23, 5-Leads, Body 2.9x1.6mm, Pitch 0.95mm, Lead Span 2.8mm, IPC High Density)
footprint MF05A_M (SOT23, 5-Leads, Body 2.9x1.6mm, Pitch 0.95mm, Lead Span 2.8mm, IPC Low Density)
pins: 1 VIN (power), 2 GND (power), 3 EN (in), 4 FB (in), 5 SW (power)

## LM3671MF-1.5/NOPB
designator U?
2MHz, 600mA Step-Down DC-DC Converter, 5-pin SOT-23, Pb-Free; PartNumber: LM3671MF-1.5/NOPB; Manufacturer: National Semiconductor; PackageTopMarking: SBRB*XTT; PowerWise: Y; CompType: MiscPower; DatasheetVersion: Oct-2008; PackageVersion: revD, Aug-2008; PackageReference: MF05A; PackageDescription: Molded SOT-23, .115 x .063 x .040 in Body, 5 Lead, .0375 in Pitch; RoHS: Y; PinCount: 5; High-Reliability: Y; ComponentLink1Description: Manufacturer URL; ComponentLink1URL: http://www.national.com/; ComponentLink2Description: LM3671 Datasheet; ComponentLink2URL: http://www.national.com/ds/LM/LM3671.pdf; ComponentLink3Description: LM3671 Web Page; ComponentLink3URL: http://www.national.com/pf/LM/LM3671.html; ComponentLink4Description: MF05A Package Page; ComponentLink4URL: http://www.national.com/packaging/folders/mf05a.html
footprint MF05A_N (SOT23, 5-Leads, Body 2.9x1.6mm, Pitch 0.95mm, Lead Span 2.8mm, IPC Medium Density)
footprint MF05A_L (SOT23, 5-Leads, Body 2.9x1.6mm, Pitch 0.95mm, Lead Span 2.8mm, IPC High Density)
footprint MF05A_M (SOT23, 5-Leads, Body 2.9x1.6mm, Pitch 0.95mm, Lead Span 2.8mm, IPC Low Density)
pins: 1 VIN (power), 2 GND (power), 3 EN (in), 4 FB (in), 5 SW (power)

## LM3671MF-1.6
designator U?
2MHz, 600mA Step-Down DC-DC Converter, 5-pin SOT-23; PartNumber: LM3671MF-1.6; Manufacturer: National Semiconductor; PackageTopMarking: SDUB*XTT; PowerWise: Y; CompType: MiscPower; DatasheetVersion: Oct-2008; PackageVersion: revD, Aug-2008; PackageReference: MF05A; PackageDescription: Molded SOT-23, .115 x .063 x .040 in Body, 5 Lead, .0375 in Pitch; RoHS: N; PinCount: 5; High-Reliability: Y; ComponentLink1Description: Manufacturer URL; ComponentLink1URL: http://www.national.com/; ComponentLink2Description: LM3671 Datasheet; ComponentLink2URL: http://www.national.com/ds/LM/LM3671.pdf; ComponentLink3Description: LM3671 Web Page; ComponentLink3URL: http://www.national.com/pf/LM/LM3671.html; ComponentLink4Description: MF05A Package Page; ComponentLink4URL: http://www.national.com/packaging/folders/mf05a.html
footprint MF05A_N (SOT23, 5-Leads, Body 2.9x1.6mm, Pitch 0.95mm, Lead Span 2.8mm, IPC Medium Density)
footprint MF05A_L (SOT23, 5-Leads, Body 2.9x1.6mm, Pitch 0.95mm, Lead Span 2.8mm, IPC High Density)
footprint MF05A_M (SOT23, 5-Leads, Body 2.9x1.6mm, Pitch 0.95mm, Lead Span 2.8mm, IPC Low Density)
pins: 1 VIN (power), 2 GND (power), 3 EN (in), 4 FB (in), 5 SW (power)

## LM3671MF-1.6/NOPB
designator U?
2MHz, 600mA Step-Down DC-DC Converter, 5-pin SOT-23, Pb-Free; PartNumber: LM3671MF-1.6/NOPB; Manufacturer: National Semiconductor; PackageTopMarking: SDUB*XTT; PowerWise: Y; CompType: MiscPower; DatasheetVersion: Oct-2008; PackageVersion: revD, Aug-2008; PackageReference: MF05A; PackageDescription: Molded SOT-23, .115 x .063 x .040 in Body, 5 Lead, .0375 in Pitch; RoHS: Y; PinCount: 5; High-Reliability: Y; ComponentLink1Description: Manufacturer URL; ComponentLink1URL: http://www.national.com/; ComponentLink2Description: LM3671 Datasheet; ComponentLink2URL: http://www.national.com/ds/LM/LM3671.pdf; ComponentLink3Description: LM3671 Web Page; ComponentLink3URL: http://www.national.com/pf/LM/LM3671.html; ComponentLink4Description: MF05A Package Page; ComponentLink4URL: http://www.national.com/packaging/folders/mf05a.html
footprint MF05A_N (SOT23, 5-Leads, Body 2.9x1.6mm, Pitch 0.95mm, Lead Span 2.8mm, IPC Medium Density)
footprint MF05A_L (SOT23, 5-Leads, Body 2.9x1.6mm, Pitch 0.95mm, Lead Span 2.8mm, IPC High Density)
footprint MF05A_M (SOT23, 5-Leads, Body 2.9x1.6mm, Pitch 0.95mm, Lead Span 2.8mm, IPC Low Density)
pins: 1 VIN (power), 2 GND (power), 3 EN (in), 4 FB (in), 5 SW (power)

## LM3671MF-1.8
designator U?
2MHz, 600mA Step-Down DC-DC Converter, 5-pin SOT-23; PartNumber: LM3671MF-1.8; Manufacturer: National Semiconductor; PackageTopMarking: SBSB*XTT; PowerWise: Y; CompType: MiscPower; DatasheetVersion: Oct-2008; PackageVersion: revD, Aug-2008; PackageReference: MF05A; PackageDescription: Molded SOT-23, .115 x .063 x .040 in Body, 5 Lead, .0375 in Pitch; RoHS: N; PinCount: 5; High-Reliability: Y; ComponentLink1Description: Manufacturer URL; ComponentLink1URL: http://www.national.com/; ComponentLink2Description: LM3671 Datasheet; ComponentLink2URL: http://www.national.com/ds/LM/LM3671.pdf; ComponentLink3Description: LM3671 Web Page; ComponentLink3URL: http://www.national.com/pf/LM/LM3671.html; ComponentLink4Description: MF05A Package Page; ComponentLink4URL: http://www.national.com/packaging/folders/mf05a.html
footprint MF05A_N (SOT23, 5-Leads, Body 2.9x1.6mm, Pitch 0.95mm, Lead Span 2.8mm, IPC Medium Density)
footprint MF05A_L (SOT23, 5-Leads, Body 2.9x1.6mm, Pitch 0.95mm, Lead Span 2.8mm, IPC High Density)
footprint MF05A_M (SOT23, 5-Leads, Body 2.9x1.6mm, Pitch 0.95mm, Lead Span 2.8mm, IPC Low Density)
pins: 1 VIN (power), 2 GND (power), 3 EN (in), 4 FB (in), 5 SW (power)

## LM3671MF-1.8/NOPB
designator U?
2MHz, 600mA Step-Down DC-DC Converter, 5-pin SOT-23, Pb-Free; PartNumber: LM3671MF-1.8/NOPB; Manufacturer: National Semiconductor; PackageTopMarking: SBSB*XTT; PowerWise: Y; CompType: MiscPower; DatasheetVersion: Oct-2008; PackageVersion: revD, Aug-2008; PackageReference: MF05A; PackageDescription: Molded SOT-23, .115 x .063 x .040 in Body, 5 Lead, .0375 in Pitch; RoHS: Y; PinCount: 5; High-Reliability: Y; ComponentLink1Description: Manufacturer URL; ComponentLink1URL: http://www.national.com/; ComponentLink2Description: LM3671 Datasheet; ComponentLink2URL: http://www.national.com/ds/LM/LM3671.pdf; ComponentLink3Description: LM3671 Web Page; ComponentLink3URL: http://www.national.com/pf/LM/LM3671.html; ComponentLink4Description: MF05A Package Page; ComponentLink4URL: http://www.national.com/packaging/folders/mf05a.html
footprint MF05A_N (SOT23, 5-Leads, Body 2.9x1.6mm, Pitch 0.95mm, Lead Span 2.8mm, IPC Medium Density)
footprint MF05A_L (SOT23, 5-Leads, Body 2.9x1.6mm, Pitch 0.95mm, Lead Span 2.8mm, IPC High Density)
footprint MF05A_M (SOT23, 5-Leads, Body 2.9x1.6mm, Pitch 0.95mm, Lead Span 2.8mm, IPC Low Density)
pins: 1 VIN (power), 2 GND (power), 3 EN (in), 4 FB (in), 5 SW (power)

## LM3671MF-1.25
designator U?
2MHz, 600mA Step-Down DC-DC Converter, 5-pin SOT-23; PartNumber: LM3671MF-1.25; Manufacturer: National Semiconductor; PackageTopMarking: SDRB*XTT; PowerWise: Y; CompType: MiscPower; DatasheetVersion: Oct-2008; PackageVersion: revD, Aug-2008; PackageReference: MF05A; PackageDescription: Molded SOT-23, .115 x .063 x .040 in Body, 5 Lead, .0375 in Pitch; RoHS: N; PinCount: 5; High-Reliability: Y; ComponentLink1Description: Manufacturer URL; ComponentLink1URL: http://www.national.com/; ComponentLink2Description: LM3671 Datasheet; ComponentLink2URL: http://www.national.com/ds/LM/LM3671.pdf; ComponentLink3Description: LM3671 Web Page; ComponentLink3URL: http://www.national.com/pf/LM/LM3671.html; ComponentLink4Description: MF05A Package Page; ComponentLink4URL: http://www.national.com/packaging/folders/mf05a.html
footprint MF05A_N (SOT23, 5-Leads, Body 2.9x1.6mm, Pitch 0.95mm, Lead Span 2.8mm, IPC Medium Density)
footprint MF05A_L (SOT23, 5-Leads, Body 2.9x1.6mm, Pitch 0.95mm, Lead Span 2.8mm, IPC High Density)
footprint MF05A_M (SOT23, 5-Leads, Body 2.9x1.6mm, Pitch 0.95mm, Lead Span 2.8mm, IPC Low Density)
pins: 1 VIN (power), 2 GND (power), 3 EN (in), 4 FB (in), 5 SW (power)

## LM3671MF-1.25/NOPB
designator U?
2MHz, 600mA Step-Down DC-DC Converter, 5-pin SOT-23, Pb-Free; PartNumber: LM3671MF-1.25/NOPB; Manufacturer: National Semiconductor; PackageTopMarking: SDRB*XTT; PowerWise: Y; CompType: MiscPower; DatasheetVersion: Oct-2008; PackageVersion: revD, Aug-2008; PackageReference: MF05A; PackageDescription: Molded SOT-23, .115 x .063 x .040 in Body, 5 Lead, .0375 in Pitch; RoHS: Y; PinCount: 5; High-Reliability: Y; ComponentLink1Description: Manufacturer URL; ComponentLink1URL: http://www.national.com/; ComponentLink2Description: LM3671 Datasheet; ComponentLink2URL: http://www.national.com/ds/LM/LM3671.pdf; ComponentLink3Description: LM3671 Web Page; ComponentLink3URL: http://www.national.com/pf/LM/LM3671.html; ComponentLink4Description: MF05A Package Page; ComponentLink4URL: http://www.national.com/packaging/folders/mf05a.html
footprint MF05A_N (SOT23, 5-Leads, Body 2.9x1.6mm, Pitch 0.95mm, Lead Span 2.8mm, IPC Medium Density)
footprint MF05A_L (SOT23, 5-Leads, Body 2.9x1.6mm, Pitch 0.95mm, Lead Span 2.8mm, IPC High Density)
footprint MF05A_M (SOT23, 5-Leads, Body 2.9x1.6mm, Pitch 0.95mm, Lead Span 2.8mm, IPC Low Density)
pins: 1 VIN (power), 2 GND (power), 3 EN (in), 4 FB (in), 5 SW (power)

## LM3671MF-1.375
designator U?
2MHz, 600mA Step-Down DC-DC Converter, 5-pin SOT-23; PartNumber: LM3671MF-1.375; Manufacturer: National Semiconductor; PackageTopMarking: SEDB*XTT; PowerWise: Y; CompType: MiscPower; DatasheetVersion: Oct-2008; PackageVersion: revD, Aug-2008; PackageReference: MF05A; PackageDescription: Molded SOT-23, .115 x .063 x .040 in Body, 5 Lead, .0375 in Pitch; RoHS: N; PinCount: 5; High-Reliability: Y; ComponentLink1Description: Manufacturer URL; ComponentLink1URL: http://www.national.com/; ComponentLink2Description: LM3671 Datasheet; ComponentLink2URL: http://www.national.com/ds/LM/LM3671.pdf; ComponentLink3Description: LM3671 Web Page; ComponentLink3URL: http://www.national.com/pf/LM/LM3671.html; ComponentLink4Description: MF05A Package Page; ComponentLink4URL: http://www.national.com/packaging/folders/mf05a.html
footprint MF05A_N (SOT23, 5-Leads, Body 2.9x1.6mm, Pitch 0.95mm, Lead Span 2.8mm, IPC Medium Density)
footprint MF05A_L (SOT23, 5-Leads, Body 2.9x1.6mm, Pitch 0.95mm, Lead Span 2.8mm, IPC High Density)
footprint MF05A_M (SOT23, 5-Leads, Body 2.9x1.6mm, Pitch 0.95mm, Lead Span 2.8mm, IPC Low Density)
pins: 1 VIN (power), 2 GND (power), 3 EN (in), 4 FB (in), 5 SW (power)

## LM3671MF-1.375/NOPB
designator U?
2MHz, 600mA Step-Down DC-DC Converter, 5-pin SOT-23, Pb-Free; PartNumber: LM3671MF-1.375/NOPB; Manufacturer: National Semiconductor; PackageTopMarking: SEDB*XTT; PowerWise: Y; CompType: MiscPower; DatasheetVersion: Oct-2008; PackageVersion: revD, Aug-2008; PackageReference: MF05A; PackageDescription: Molded SOT-23, .115 x .063 x .040 in Body, 5 Lead, .0375 in Pitch; RoHS: Y; PinCount: 5; High-Reliability: Y; ComponentLink1Description: Manufacturer URL; ComponentLink1URL: http://www.national.com/; ComponentLink2Description: LM3671 Datasheet; ComponentLink2URL: http://www.national.com/ds/LM/LM3671.pdf; ComponentLink3Description: LM3671 Web Page; ComponentLink3URL: http://www.national.com/pf/LM/LM3671.html; ComponentLink4Description: MF05A Package Page; ComponentLink4URL: http://www.national.com/packaging/folders/mf05a.html
footprint MF05A_N (SOT23, 5-Leads, Body 2.9x1.6mm, Pitch 0.95mm, Lead Span 2.8mm, IPC Medium Density)
footprint MF05A_L (SOT23, 5-Leads, Body 2.9x1.6mm, Pitch 0.95mm, Lead Span 2.8mm, IPC High Density)
footprint MF05A_M (SOT23, 5-Leads, Body 2.9x1.6mm, Pitch 0.95mm, Lead Span 2.8mm, IPC Low Density)
pins: 1 VIN (power), 2 GND (power), 3 EN (in), 4 FB (in), 5 SW (power)

## LM3671MF-1.875
designator U?
2MHz, 600mA Step-Down DC-DC Converter, 5-pin SOT-23; PartNumber: LM3671MF-1.875; Manufacturer: National Semiconductor; PackageTopMarking: SDVB*XTT; PowerWise: Y; CompType: MiscPower; DatasheetVersion: Oct-2008; PackageVersion: revD, Aug-2008; PackageReference: MF05A; PackageDescription: Molded SOT-23, .115 x .063 x .040 in Body, 5 Lead, .0375 in Pitch; RoHS: N; PinCount: 5; High-Reliability: Y; ComponentLink1Description: Manufacturer URL; ComponentLink1URL: http://www.national.com/; ComponentLink2Description: LM3671 Datasheet; ComponentLink2URL: http://www.national.com/ds/LM/LM3671.pdf; ComponentLink3Description: LM3671 Web Page; ComponentLink3URL: http://www.national.com/pf/LM/LM3671.html; ComponentLink4Description: MF05A Package Page; ComponentLink4URL: http://www.national.com/packaging/folders/mf05a.html
footprint MF05A_N (SOT23, 5-Leads, Body 2.9x1.6mm, Pitch 0.95mm, Lead Span 2.8mm, IPC Medium Density)
footprint MF05A_L (SOT23, 5-Leads, Body 2.9x1.6mm, Pitch 0.95mm, Lead Span 2.8mm, IPC High Density)
footprint MF05A_M (SOT23, 5-Leads, Body 2.9x1.6mm, Pitch 0.95mm, Lead Span 2.8mm, IPC Low Density)
pins: 1 VIN (power), 2 GND (power), 3 EN (in), 4 FB (in), 5 SW (power)

## LM3671MF-1.875/NOPB
designator U?
2MHz, 600mA Step-Down DC-DC Converter, 5-pin SOT-23, Pb-Free; PartNumber: LM3671MF-1.875/NOPB; Manufacturer: National Semiconductor; PackageTopMarking: SDVB*XTT; PowerWise: Y; CompType: MiscPower; DatasheetVersion: Oct-2008; PackageVersion: revD, Aug-2008; PackageReference: MF05A; PackageDescription: Molded SOT-23, .115 x .063 x .040 in Body, 5 Lead, .0375 in Pitch; RoHS: Y; PinCount: 5; High-Reliability: Y; ComponentLink1Description: Manufacturer URL; ComponentLink1URL: http://www.national.com/; ComponentLink2Description: LM3671 Datasheet; ComponentLink2URL: http://www.national.com/ds/LM/LM3671.pdf; ComponentLink3Description: LM3671 Web Page; ComponentLink3URL: http://www.national.com/pf/LM/LM3671.html; ComponentLink4Description: MF05A Package Page; ComponentLink4URL: http://www.national.com/packaging/folders/mf05a.html
footprint MF05A_N (SOT23, 5-Leads, Body 2.9x1.6mm, Pitch 0.95mm, Lead Span 2.8mm, IPC Medium Density)
footprint MF05A_L (SOT23, 5-Leads, Body 2.9x1.6mm, Pitch 0.95mm, Lead Span 2.8mm, IPC High Density)
footprint MF05A_M (SOT23, 5-Leads, Body 2.9x1.6mm, Pitch 0.95mm, Lead Span 2.8mm, IPC Low Density)
pins: 1 VIN (power), 2 GND (power), 3 EN (in), 4 FB (in), 5 SW (power)